# Altium integrated library SN74LVC1T45.IntLib: 1 symbol
Pins are listed as number, name and electrical type; pins without a type are passive.

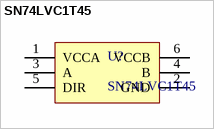
[diagram p0: symbol SN74LVC1T45]

## SN74LVC1T45
designator U?
Supplier 1: Farnell; Supplier 2: Digi_Key; Supplier 3: Mouser; Supplier Part Number 1: N/A; Supplier Part Number 2: 296-20629-1-ND; Supplier Part Number 3: 595-SN74LVC1T45DRLR
footprint SOT6_DRL
pins: 1 VCCA, 2 GND, 3 A, 4 B, 5 DIR, 6 VCCB